# Altium schematic symbol library IMU.SchLib: 2 symbols
Pins are listed as number, name and electrical type; pins without a type are passive.

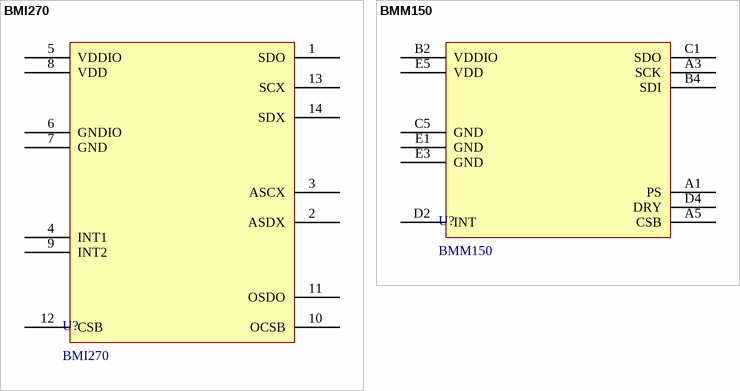
[diagram p0: symbols BMI270 to BMM150]

## BMI270
designator U?
IMUs - Inertial Measurement Units Smart Ultra-Low Power Inertial Measurement Unit (IMU) for Wearable Applications; Manufacturer: Bosch; Pad count: 14; Supply Voltage - Max: 3.6 V; Supply Voltage - Min: 1.2 V; Active: Active; Supplier 1 URL: https://www.mouser.com/ProductDetail/Bosch-Sensortec/BMI270?qs=u16ybLDytRYIj%252BjQEee88A%3D%3D; Supplier 2 URL: https://www.digikey.com/en/products/detail/bosch-sensortec/bmi270/9974486; Supplier 3 URL: N/A; Value: BMI270; Manufacturer Part Number: BMI270; Packaging: Tape and Reel; Supplier 1: Mouser; Supplier 1 Part Number: 262-BMI270; Supplier 2: Digi-Key; Supplier 2 Part Number: 828-1091-2-ND; Supplier 3: thegioiic; Supplier 3 Part Number: N/A; Mount: SMD/SMT; Operating Temperature Max: + 85 C; Operating Temperature Min: - 40 C; Package / Case: LGA-14; ComponentLink1Description: Datasheet; ComponentLink1URL: https://www.mouser.com/datasheet/2/783/bst_bmi270_ds000-2529306.pdf
footprint BMI270 (QFN, 14-Leads, Body 3.00x2.50mm, Pitch 0.50mm, IPC Medium Density)
pins: 1 SDO, 2 ASDX, 3 ASCX, 4 INT1, 5 VDDIO, 6 GNDIO, 7 GND, 8 VDD, 9 INT2, 10 OCSB, 11 OSDO, 12 CSB, 13 SCX, 14 SDX

## BMM150
designator U?
Board Mount Hall Effect / Magnetic Sensors 3-axis MEMS Magnetometer Sensor; Manufacturer: Bosch; Pad count: 12; Active: NRND; Supply Voltage - Max: 3.6 V; Supply Voltage - Min: 1.62 V; Supplier 1 URL: https://www.mouser.com/ProductDetail/Bosch-Sensortec/BMM150?qs=d72FGnIDsgTOmKpCEe6mYw%3D%3D; Supplier 2 URL: https://www.digikey.com/en/products/detail/bosch-sensortec/bmm150/4196671; Supplier 3 URL: N/A; Value: BMM150; Manufacturer Part Number: BMM150; Packaging: Tape and Reel; Supplier 1: Mouser; Supplier 1 Part Number: 262-BMM150; Supplier 2: Digi-Key; Supplier 2 Part Number: 828-1044-2-ND; Supplier 3: thegioiic; Supplier 3 Part Number: N/A; Mount: SMD/SMT; Operating Temperature Max: + 85 C; Operating Temperature Min: - 40 C; Package / Case: WJCSP-12; ComponentLink1Description: Datasheet; ComponentLink1URL: https://www.mouser.com/datasheet/2/783/BST_BMM150_DS001-1509615.pdf
footprint BMM150 (BGA, 12-Leads, Body 1.56x1.56mmx0.40mm, Pitch 0.28mm)
pins: A1 PS, A3 SCK, A5 CSB, B2 VDDIO, B4 SDI, C1 SDO, C5 GND, D2 INT, D4 DRY, E1 GND, E3 GND, E5 VDD